# EAGLE library part ZM1020 (library ZM1020old)
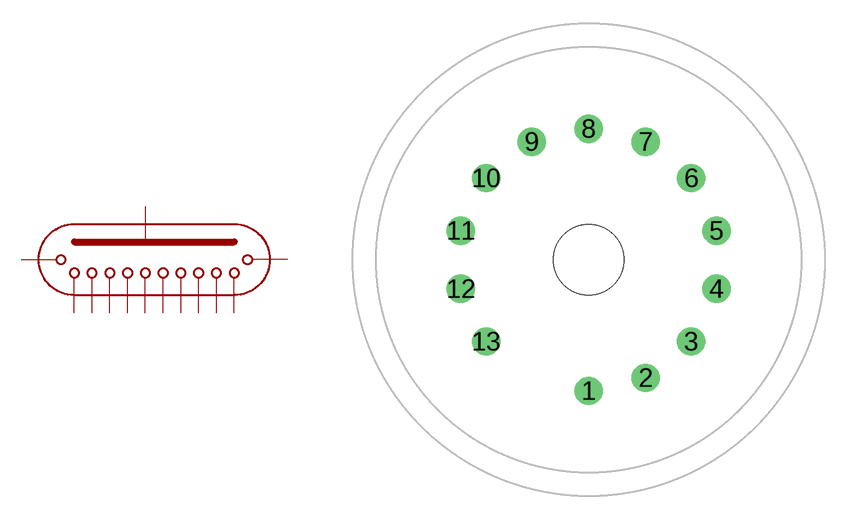
[diagram p0: symbol with the pads of ZM1020; footprint ZM1020]

Designator prefix -

## ZM1020  [ZM1020]
1  NC1
2  A
3  0
4  9
5  8
6  7
7  6
8  NC2
9  5
10  4
11  3
12  2
13  1

## Footprint ZM1020 (pad centres in mm)
drill 1.2: 1 0,-8.325; 2 3.61,-7.5; 3 6.51,-5.19; 4 8.12,-1.85; 5 8.12,1.85; 6 6.51,5.19; 7 3.61,7.5; 8 0,8.325; 9 -3.61,7.5; 10 -6.51,5.19; 11 -8.12,1.85; 12 -8.12,-1.85; 13 -6.51,-5.19
hole 4.5 at 0,0